# EAGLE library part MAX140* (library IC_Data-Conversion)
3^1/2 Digit A/D Converters with Bandgap Reference and Charge-Pump Voltage Converter Datasheet <https://datasheets.maximintegrated.com/en/ds/MAX138-MAX140.pdf>
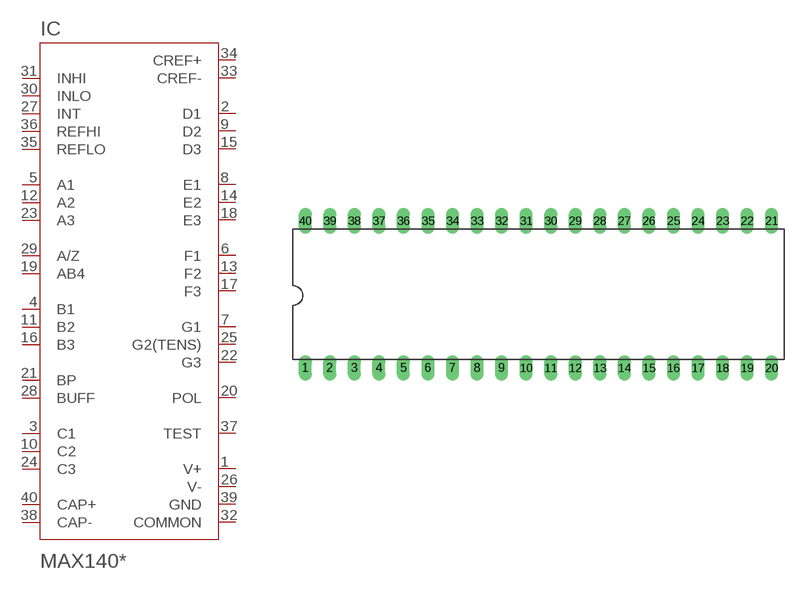
[diagram p3: symbol with the pads of DIL40; footprint DIL40]

Designator prefix IC

## MAX140EPL_PDIP (CATEGORY: IC_Data-Conversion; DESCRIPTION: ADC 3.5DIGIT 40DIP; MANUFACTURER: Maxim Integrated; MPN: MAX140EPL+; OPERATING_TEMP: -40 to +85 °C; PART_STATUS: Active; ROHS_COMPLIANT: Compliant; SUB-CATEGORY: A/D Converter)  [DIL40]
1  V+  pwr
2  D1
3  C1
4  B1
5  A1
6  F1
7  G1
8  E1
9  D2
10  C2
11  B2
12  A2
13  F2
14  E2
15  D3
16  B3
17  F3
18  E3
19  AB4
20  POL
21  BP
22  G3
23  A3
24  C3
25  G2(TENS)
26  V-  pwr
27  INT  in
28  BUFF
29  A/Z
30  INLO  in
31  INHI  in
32  COMMON
33  CREF-
34  CREF+
35  REFLO  in
36  REFHI  in
37  TEST
38  CAP-
39  GND  pwr
40  CAP+

## Footprint DIL40 (pad centres in mm)
Dual In Line Package
drill 0.813 long: 1 -24.13,-7.62; 2 -21.59,-7.62; 3 -19.05,-7.62; 4 -16.51,-7.62; 5 -13.97,-7.62; 6 -11.43,-7.62; 7 -8.89,-7.62; 8 -6.35,-7.62; 9 -3.81,-7.62; 10 -1.27,-7.62; 11 1.27,-7.62; 12 3.81,-7.62; 13 6.35,-7.62; 14 8.89,-7.62; 15 11.43,-7.62; 16 13.97,-7.62; 17 16.51,-7.62; 18 19.05,-7.62; 19 21.59,-7.62; 20 24.13,-7.62; 21 24.13,7.62; 22 21.59,7.62; 23 19.05,7.62; 24 16.51,7.62; 25 13.97,7.62; 26 11.43,7.62; 27 8.89,7.62; 28 6.35,7.62; 29 3.81,7.62; 30 1.27,7.62; 31 -1.27,7.62; 32 -3.81,7.62; 33 -6.35,7.62; 34 -8.89,7.62; 35 -11.43,7.62; 36 -13.97,7.62; 37 -16.51,7.62; 38 -19.05,7.62; 39 -21.59,7.62; 40 -24.13,7.62